# Altium footprint library ESOP.PcbLib: 6 footprints
Each footprint in its own frame and in the unit in brackets; x right, y up, seen from the top. Pads: shape width x height; smd on the part's side, far side on the other; paste and mask are expansions set on the pad; w line width, h text height; cw(c..) or ccw(c..) is an arc to the next point about the centre after c.
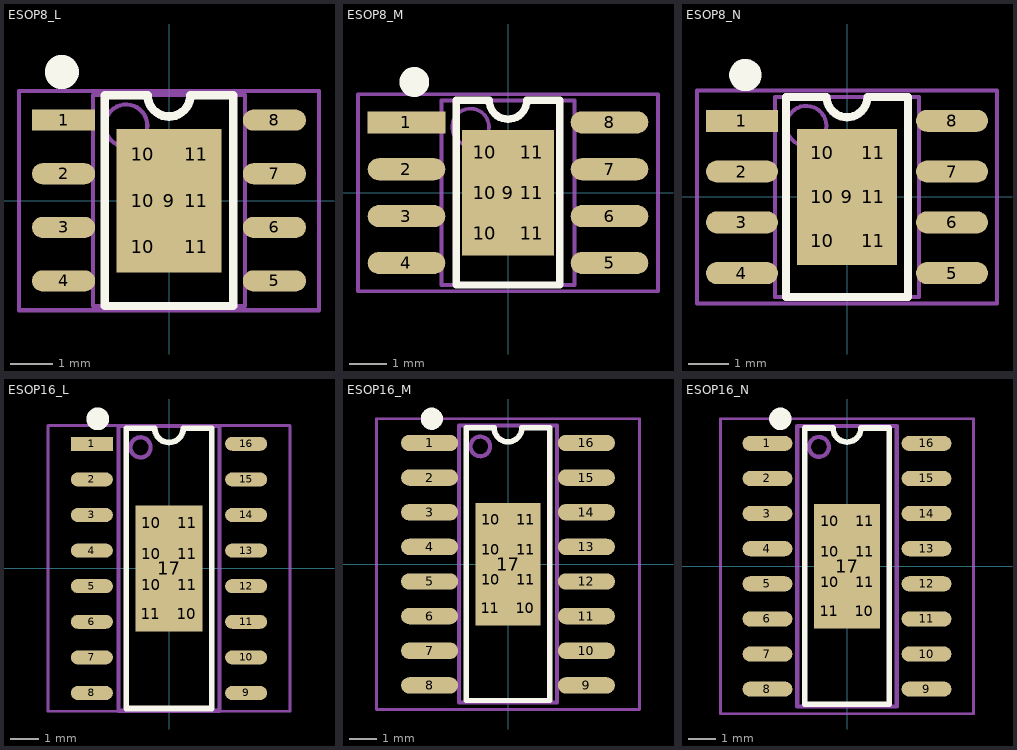
[diagram p0: the footprints below, top view; thin cyan lines are the x and y axes]

## ESOP8_L [mm] "5*6*1.8mm（长宽高）"
height 1.75
pads (15):
  rect 1.5x0.5 smd: 1(-2.5,1.905)
  oval 1.5x0.5 smd: 2(-2.5,0.635) 3(-2.5,-0.635) 4(-2.5,-1.905) 5(2.5,-1.905) 6(2.5,-0.635) 7(2.5,0.635) 8(2.5,1.905)
  rect 2.5x3.4 smd paste-2: 9(0,0)
  rect 0.9x0.7 on Top Paste: 10(-0.625,-1.1) 10(-0.625,0) 10(-0.625,1.1) 11(0.65,-1.1) 11(0.65,0) 11(0.65,1.1)
Top Overlay:
  circle w0.5: c-2.54,3.048 r0.155
  lines w0.2: -1.524,2.5 -1.524,-2.5 1.524,-2.5 1.524,2.5
  lines w0.203: -1.524,2.5 -0.508,2.5 ccw(c0,2.5) 0,1.992 ccw(c0,2.5) 0.508,2.5 1.524,2.5
Mechanical 13:
  circle w0.1: c-1.016,1.778 r0.5
  lines w0.1: -1.8,-2.5 1.8,-2.5 1.8,2.5 -1.8,2.5 -1.8,-2.5
Mechanical 15:
  circle w0.05: c0,0 r0.35
  lines w0.05: -0.5,0 0.5,0 ; 0,-0.5 0,0.5
  lines w0.1: -3.556,-2.6 3.556,-2.6 3.556,2.6 -3.556,2.6 -3.556,-2.6
3D body: height 1.53, standoff -0.01, extent -3.003,-2.5 3.003,2.5

## ESOP8_M [mm] "5*6*1.8mm（长宽高）"
height 1.75
pads (15):
  rect 2.1x0.6 smd: 1(-2.75,1.905)
  oval 2.1x0.6 smd: 2(-2.75,0.635) 3(-2.75,-0.635) 4(-2.75,-1.905) 5(2.75,-1.905) 6(2.75,-0.635) 7(2.75,0.635) 8(2.75,1.905)
  rect 2.5x3.4 smd paste-2: 9(0,0)
  rect 0.9x0.7 on Top Paste: 10(-0.625,-1.1) 10(-0.625,0) 10(-0.625,1.1) 11(0.65,-1.1) 11(0.65,0) 11(0.65,1.1)
Top Overlay:
  circle w0.5: c-2.54,3 r0.155
  lines w0.2: -1.397,2.5 -1.397,-2.5 1.397,-2.5 1.397,2.5
  lines w0.203: -1.397,2.5 -0.508,2.5 ccw(c0,2.5) 0,1.992 ccw(c0,2.5) 0.508,2.5 1.397,2.5
Mechanical 13:
  circle w0.1: c-1.016,1.778 r0.5
  lines w0.1: -1.8,-2.5 1.8,-2.5 1.8,2.5 -1.8,2.5 -1.8,-2.5
Mechanical 15:
  circle w0.05: c0,0 r0.35
  lines w0.05: -0.5,0 0.5,0 ; 0,-0.5 0,0.5
  lines w0.1: -4.064,-2.667 4.064,-2.667 4.064,2.667 -4.064,2.667 -4.064,-2.667
3D body: height 1.53, standoff -0.01, extent -3.003,-2.5 3.003,2.5

## ESOP8_N [mm] "5*6*1.8mm（长宽高）"
height 1.75
pads (15):
  rect 1.8x0.55 smd: 1(-2.625,1.905)
  oval 1.8x0.55 smd: 2(-2.625,0.635) 3(-2.625,-0.635) 4(-2.625,-1.905) 5(2.625,-1.905) 6(2.625,-0.635) 7(2.625,0.635) 8(2.625,1.905)
  rect 2.5x3.4 smd paste-2: 9(0,0)
  rect 0.9x0.7 on Top Paste: 10(-0.625,-1.1) 10(-0.625,0) 10(-0.625,1.1) 11(0.65,-1.1) 11(0.65,0) 11(0.65,1.1)
Top Overlay:
  circle w0.5: c-2.54,3.048 r0.155
  lines w0.2: -1.524,2.5 -1.524,-2.5 1.524,-2.5 1.524,2.5
  lines w0.203: -1.524,2.5 -0.508,2.5 ccw(c0,2.5) 0,1.992 ccw(c0,2.5) 0.508,2.5 1.524,2.5
Mechanical 13:
  circle w0.1: c-1.016,1.778 r0.5
  lines w0.1: -1.8,-2.5 1.8,-2.5 1.8,2.5 -1.8,2.5 -1.8,-2.5
Mechanical 15:
  circle w0.05: c0,0 r0.35
  lines w0.05: -0.5,0 0.5,0 ; 0,-0.5 0,0.5
  lines w0.1: -3.75,-2.667 -3.75,2.667 3.75,2.667 3.75,-2.667 -3.75,-2.667
3D body: height 1.53, standoff -0.01, extent -3.003,-2.5 3.003,2.5

## ESOP16_L [mm] "10.3*6.2*1.8mm（长宽高）"
height 1.75
pads (25):
  rect 1.5x0.5 smd: 1(-2.752,4.445)
  oval 1.5x0.5 smd: 2(-2.752,3.175) 3(-2.752,1.905) 4(-2.752,0.635) 5(-2.752,-0.635) 6(-2.752,-1.905) 7(-2.752,-3.175) 8(-2.752,-4.445) 9(2.752,-4.445) 10(2.752,-3.175) 11(2.752,-1.905) 12(2.752,-0.635) 13(2.752,0.635) 14(2.752,1.905) 15(2.752,3.175) 16(2.752,4.445)
  rect 0.9x0.7 on Top Paste: 10(-0.625,-0.575) 10(-0.625,0.525) 10(-0.625,1.625) 10(0.625,-1.625) 11(-0.65,-1.625) 11(0.65,-0.575) 11(0.65,0.525) 11(0.65,1.625)
  rect 2.4x4.5 smd paste-3: 17(0,0)
Top Overlay:
  circle w0.5: c-2.54,5.334 r0.155
  lines w0.2: -1.524,5 -1.524,-5 1.524,-5 1.524,5
  lines w0.203: -1.524,5 -0.508,5 ccw(c0,5) 0,4.492 ccw(c0,5) 0.508,5 1.524,5
Mechanical 13:
  circle w0.15: c-1.016,4.318 r0.359
  lines w0.15: -1.8,-5.08 1.8,-5.08 1.8,5.08 -1.8,5.08 -1.8,-5.08
Mechanical 15:
  circle w0.05: c0,0 r0.35
  lines w0.05: -0.5,0 0.5,0 ; 0,-0.5 0,0.5
  lines w0.1: -4.318,-5.1 -4.318,5.1 4.318,5.1 4.318,-5.1 -4.318,-5.1
3D body: height 1.53, standoff -0.03, extent -3.003,-5 3.003,5

## ESOP16_M [mm] "10.3*6.2*1.8mm（长宽高）"
height 1.75
pads (25):
  oval 2.1x0.6 smd: 1(-2.875,4.445) 2(-2.875,3.175) 3(-2.875,1.905) 4(-2.875,0.635) 5(-2.875,-0.635) 6(-2.875,-1.905) 7(-2.875,-3.175) 8(-2.875,-4.445) 9(2.875,-4.445) 10(2.875,-3.175) 11(2.875,-1.905) 12(2.875,-0.635) 13(2.875,0.635) 14(2.875,1.905) 15(2.875,3.175) 16(2.875,4.445)
  rect 0.9x0.7 on Top Paste: 10(-0.625,-0.575) 10(-0.625,0.525) 10(-0.625,1.625) 10(0.625,-1.625) 11(-0.65,-1.625) 11(0.65,-0.575) 11(0.65,0.525) 11(0.65,1.625)
  rect 2.4x4.5 smd paste-3: 17(0,0)
Top Overlay:
  circle w0.5: c-2.794,5.334 r0.155
  lines w0.2: -1.524,5 -1.524,-5 1.524,-5 1.524,5
  lines w0.203: -1.524,5 -0.508,5 ccw(c0,5) 0,4.492 ccw(c0,5) 0.508,5 1.524,5
Mechanical 13:
  circle w0.15: c-1.016,4.318 r0.359
  lines w0.15: -1.8,-5.08 1.8,-5.08 1.8,5.08 -1.8,5.08 -1.8,-5.08
Mechanical 15:
  circle w0.05: c0,0 r0.35
  lines w0.05: -0.5,0 0.5,0 ; 0,-0.5 0,0.5
  lines w0.1: -4.826,-5.334 -4.826,5.334 4.826,5.334 4.826,-5.334 -4.826,-5.334
3D body: height 1.53, standoff -0.03, extent -3.003,-5 3.003,5

## ESOP16_N [mm] "10.3*6.2*1.8mm（长宽高）"
height 1.75
pads (25):
  oval 1.8x0.55 smd: 1(-2.877,4.445) 2(-2.877,3.175) 3(-2.877,1.905) 4(-2.877,0.635) 5(-2.877,-0.635) 6(-2.877,-1.905) 7(-2.877,-3.175) 8(-2.877,-4.445) 9(2.877,-4.445) 10(2.877,-3.175) 11(2.877,-1.905) 12(2.877,-0.635) 13(2.877,0.635) 14(2.877,1.905) 15(2.877,3.175) 16(2.877,4.445)
  rect 0.9x0.7 on Top Paste: 10(-0.625,-0.575) 10(-0.625,0.525) 10(-0.625,1.625) 10(0.625,-1.625) 11(-0.65,-1.625) 11(0.65,-0.575) 11(0.65,0.525) 11(0.65,1.625)
  rect 2.4x4.5 smd paste-3: 17(0,0)
Top Overlay:
  circle w0.5: c-2.413,5.334 r0.155
  lines w0.2: -1.524,5 -1.524,-5 1.524,-5 1.524,5
  lines w0.203: -1.524,5 -0.508,5 ccw(c0,5) 0,4.492 ccw(c0,5) 0.508,5 1.524,5
Mechanical 13:
  circle w0.15: c-1.016,4.318 r0.359
  lines w0.15: -1.8,-5.08 1.8,-5.08 1.8,5.08 -1.8,5.08 -1.8,-5.08
Mechanical 15:
  circle w0.05: c0,0 r0.35
  lines w0.05: -0.5,0 0.5,0 ; 0,-0.5 0,0.5
  lines w0.1: -4.572,-5.334 4.572,-5.334 4.572,5.334 -4.572,5.334 -4.572,-5.334
3D body: height 1.53, standoff -0.03, extent -3.003,-5 3.003,5